# EAGLE library part 1363_NIXIE (library TomW)
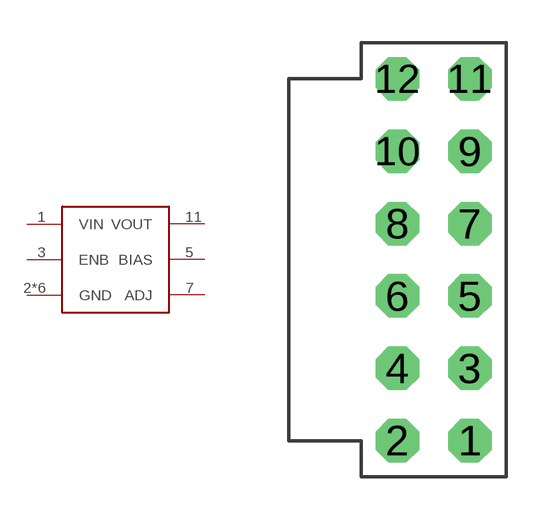
[diagram p9: symbol with the pads of 1363_NIXIE; footprint 1363_NIXIE]

Designator prefix -

## 1363_NIXIE  [1363_NIXIE]
1  VIN
2  GND
3  ENB
4  GND
5  BIAS
6  GND
7  ADJ
8  GND
9  GND
10  GND
11  VOUT

## Footprint 1363_NIXIE (pad centres in mm)
drill 1.016 octagon: 1 1.27,-6.35; 2 -1.27,-6.35; 3 1.27,-3.81; 4 -1.27,-3.81; 5 1.27,-1.27; 6 -1.27,-1.27; 7 1.27,1.27; 8 -1.27,1.27; 9 1.27,3.81; 10 -1.27,3.81; 11 1.27,6.35; 12 -1.27,6.35